# EAGLE library part PIC16F1455 (library GadgetFactory_v1)
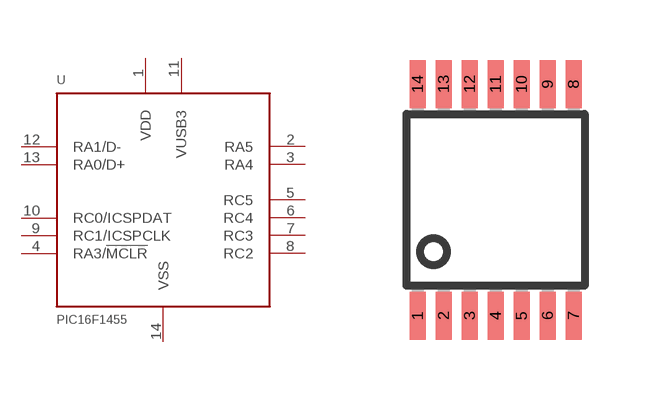
[diagram p13: symbol with the pads of TSSOP14; footprint TSSOP14]

Designator prefix U

## PIC16F1455ST  [TSSOP14]
1  VDD  pwr
2  RA5
3  RA4
4  RA3/!MCLR
5  RC5
6  RC4
7  RC3
8  RC2
9  RC1/ICSPCLK
10  RC0/ICSPDAT
11  VUSB3  pwr
12  RA1/D-
13  RA0/D+
14  VSS  pas

## Footprint TSSOP14 (pad centres in mm)
PLASTIC SMALL-OUTLINE PACKAGE SO 14 JEDEC MO-153, PW Type Source: www.ti.com/.. slvs087l.pdf
smd 0.4 x 1.2: 1 -1.95,-2.9; 2 -1.3,-2.9; 3 -0.65,-2.9; 4 0,-2.9; 5 0.65,-2.9; 6 1.3,-2.9; 7 1.95,-2.9; 8 1.95,2.9; 9 1.3,2.9; 10 0.65,2.9; 11 0,2.9; 12 -0.65,2.9; 13 -1.3,2.9; 14 -1.95,2.9